# EAGLE library part IP5306 (library IP5306)
Check availability <https://pricing.snapeda.com/parts/IP5306/NXP%20USA%20Inc./view-part?ref=eda>
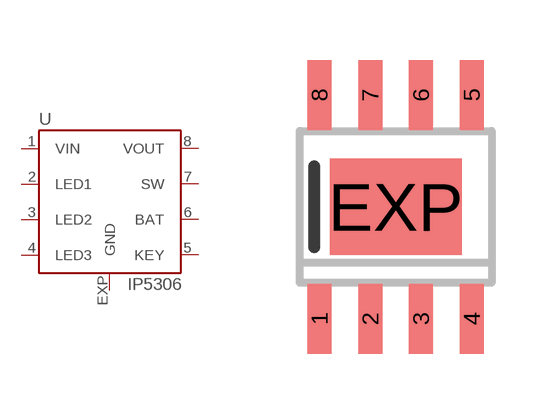
[diagram p0: symbol with the pads of SOP8-P; footprint SOP8-P]

Designator prefix U

## IP5306 (Availability: In Stock; Description: RC (Pi) EMI Filter 2nd Order Low Pass 2 Channel R = 2.2kOhms, C = 1700pF 8-UFBGA, WLCSP; MF: NXP USA Inc.; MP: IP5306; Package: UFBGA-8 NXP Semiconductors; Price: None; Purchase-URL: https://pricing.snapeda.com/search/part/IP5306/?ref=eda)  [SOP8-P]
1  VIN
2  LED1
3  LED2
4  LED3
5  KEY
6  BAT
7  SW
8  VOUT
EXP  GND

## Footprint SOP8-P (pad centres in mm)
smd 0.6 x 1.75: 1 -1.905,-2.8; 2 -0.635,-2.8; 3 0.635,-2.8; 4 1.905,-2.8; 5 1.905,2.8; 6 0.635,2.8; 7 -0.635,2.8; 8 -1.905,2.8
smd 3.3 x 2.41: EXP 0,0